# Altium integrated library Protection.IntLib: 2 symbols
Pins are listed as number, name and electrical type; pins without a type are passive.

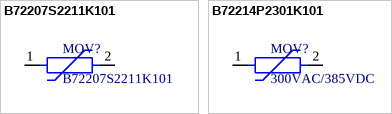
[diagram p0: symbols B72207S2211K101 to B72214P2301K101]

## B72207S2211K101
designator MOV?
Varistors Varistor S07K210E2; Manufacturer: TDK EPCOS; Current Rating: 10A; Voltage Rating (DC): 270V; Voltage Rating (AC): 210V; Tolerance: 10%; Capacitance: 125pF; Max Surge Current: 1.75kA; Number of Circuits: 1; Energy: 20J; Clamping Voltage: 545V; Varistor Voltage: 330V; Min Varistor Voltage: 297V; Max Varistor Voltage: 363V; Lead/Base Style: Radial; Purpose Of Usage: BASIC; Supplier 1: Digi-Key; Supplier Part Number 1: 495-76188-ND; Manufacturer Part Number: B72207S2211K101; RoHS: Yes; Stock 1: 4609; Pricing 1: 1 = 0,40000, 10 = 0,31100, 25 = 0,26200, 100 = 0,21320, 250 = 0,17660, 500 = 0,14616, 1000 = 0,10962, 2500 = 0,10048, 5000 = 0,09440 (USD); Mount: Through Hole; Case/Package: Radial; Weight: 0.028219oz; Min Operating Temperature: -40°C; Max Operating Temperature: 85°C; Packaging: Bulk; Package Quantity: 1000; Max Voltage Rating (AC): 210V; Max Voltage Rating (DC): 270V; Termination: Radial; Clamping Current: 10A; Voltage Tolerance: 10%; Diameter: 7mm; Height: 11mm; Width: 9mm; Lead Pitch: 5mm; Depth: 4.2mm; Category: Circuit Protection- TVS - Varistors, MOVs
footprint B72207S2211K101
pins: 1, 2

## B72214P2301K101
designator MOV?, comment 300VAC/385VDC
Var MOV 300VAC/385VDC 6000A 470V Thru-Hole Radial Bulk; Manufacturer: TDK EPCOS; Manufacturer Part Number: B72214P2301K101; Number of Circuits: 1; Max Voltage Rating (AC): 300V; Max Voltage Rating (DC): 385V; Energy: 140J; Min Varistor Voltage: 423V; Max Varistor Voltage: 517V; Max Surge Current: 6kA; Purpose Of Usage: BASIC; Supplier 1: Digi-Key; Supplier Part Number 1: 495-4292-ND; RoHS: Yes; Stock 1: 19220; Pricing 1: 1 = 0,66000, 10 = 0,58200, 25 = 0,51520, 100 = 0,44880, 250 = 0,39060, 500 = 0,33244, 1000 = 0,26594, 2500 = 0,24101, 5000 = 0,22439 (USD); Mount: Through Hole; Case/Package: Radial; Package Quantity: 500; Packaging: Bulk; Varistor Voltage: 470V; Category: Circuit Protection- TVS - Varistors, MOVs
footprint B72214P2301K101
pins: 1, 2